# EAGLE library part AS5030 (library ecssr)
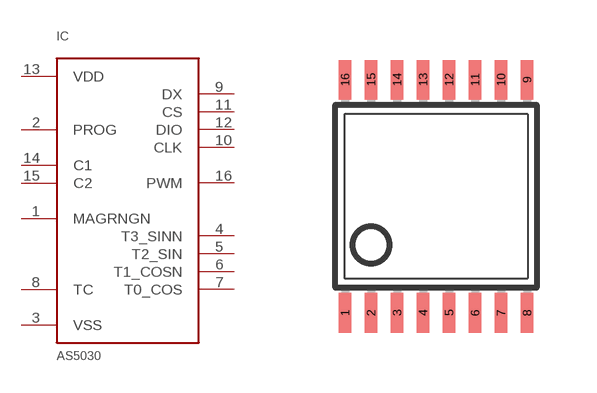
[diagram p8: symbol with the pads of TSSOP16; footprint TSSOP16]

Designator prefix IC

## AS5030ATST  [TSSOP16]
1  MAGRNGN
2  PROG
3  VSS
4  T3_SINN
5  T2_SIN
6  T1_COSN
7  T0_COS
8  TC
9  DX
10  CLK
11  CS
12  DIO
13  VDD
14  C1
15  C2
16  PWM

## Footprint TSSOP16 (pad centres in mm)
Thin Shrink Small Outline Plastic 16 MAX3223-MAX3243.pdf
smd 0.305 x 0.991: 1 -2.275,-2.918; 2 -1.625,-2.918; 3 -0.975,-2.918; 4 -0.325,-2.918; 5 0.325,-2.918; 6 0.975,-2.918; 7 1.625,-2.918; 8 2.275,-2.918; 9 2.275,2.918; 10 1.625,2.918; 11 0.975,2.918; 12 0.325,2.918; 13 -0.325,2.918; 14 -0.975,2.918; 15 -1.625,2.918; 16 -2.275,2.918